# EAGLE library part ESP-12_16PIN (library ESP8266_modules)
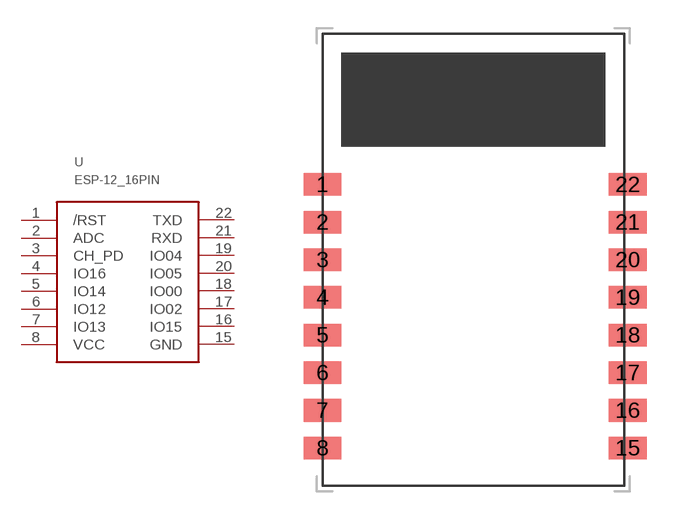
[diagram p0: symbol with the pads of 2MM_2X8_CAST_16PIN; footprint 2MM_2X8_CAST_16PIN]

Designator prefix -

## ESP-12_16PIN  [2MM_2X8_CAST_16PIN]
1  /RST
2  ADC
3  CH_PD
4  IO16
5  IO14
6  IO12
7  IO13
8  VCC
15  GND
16  IO15
17  IO02
18  IO00
19  IO04
20  IO05
21  RXD
22  TXD

## Footprint 2MM_2X8_CAST_16PIN (pad centres in mm)
smd 2 x 1.2: 1 -8,7; 2 -8,5; 3 -8,3; 4 -8,1; 5 -8,-1; 6 -8,-3; 7 -8,-5; 8 -8,-7; 15 8.2,-7; 16 8.2,-5; 17 8.2,-3; 18 8.2,-1; 19 8.2,1; 20 8.2,3; 21 8.2,5; 22 8.2,7